# Altium footprint library Loggerhead.PcbLib: 175 footprints (part 11 of 11)
Each footprint in its own frame and in the unit in brackets; x right, y up, seen from the top. Pads: shape width x height; smd on the part's side, far side on the other; paste and mask are expansions set on the pad; w line width, h text height; cw(c..) or ccw(c..) is an arc to the next point about the centre after c.
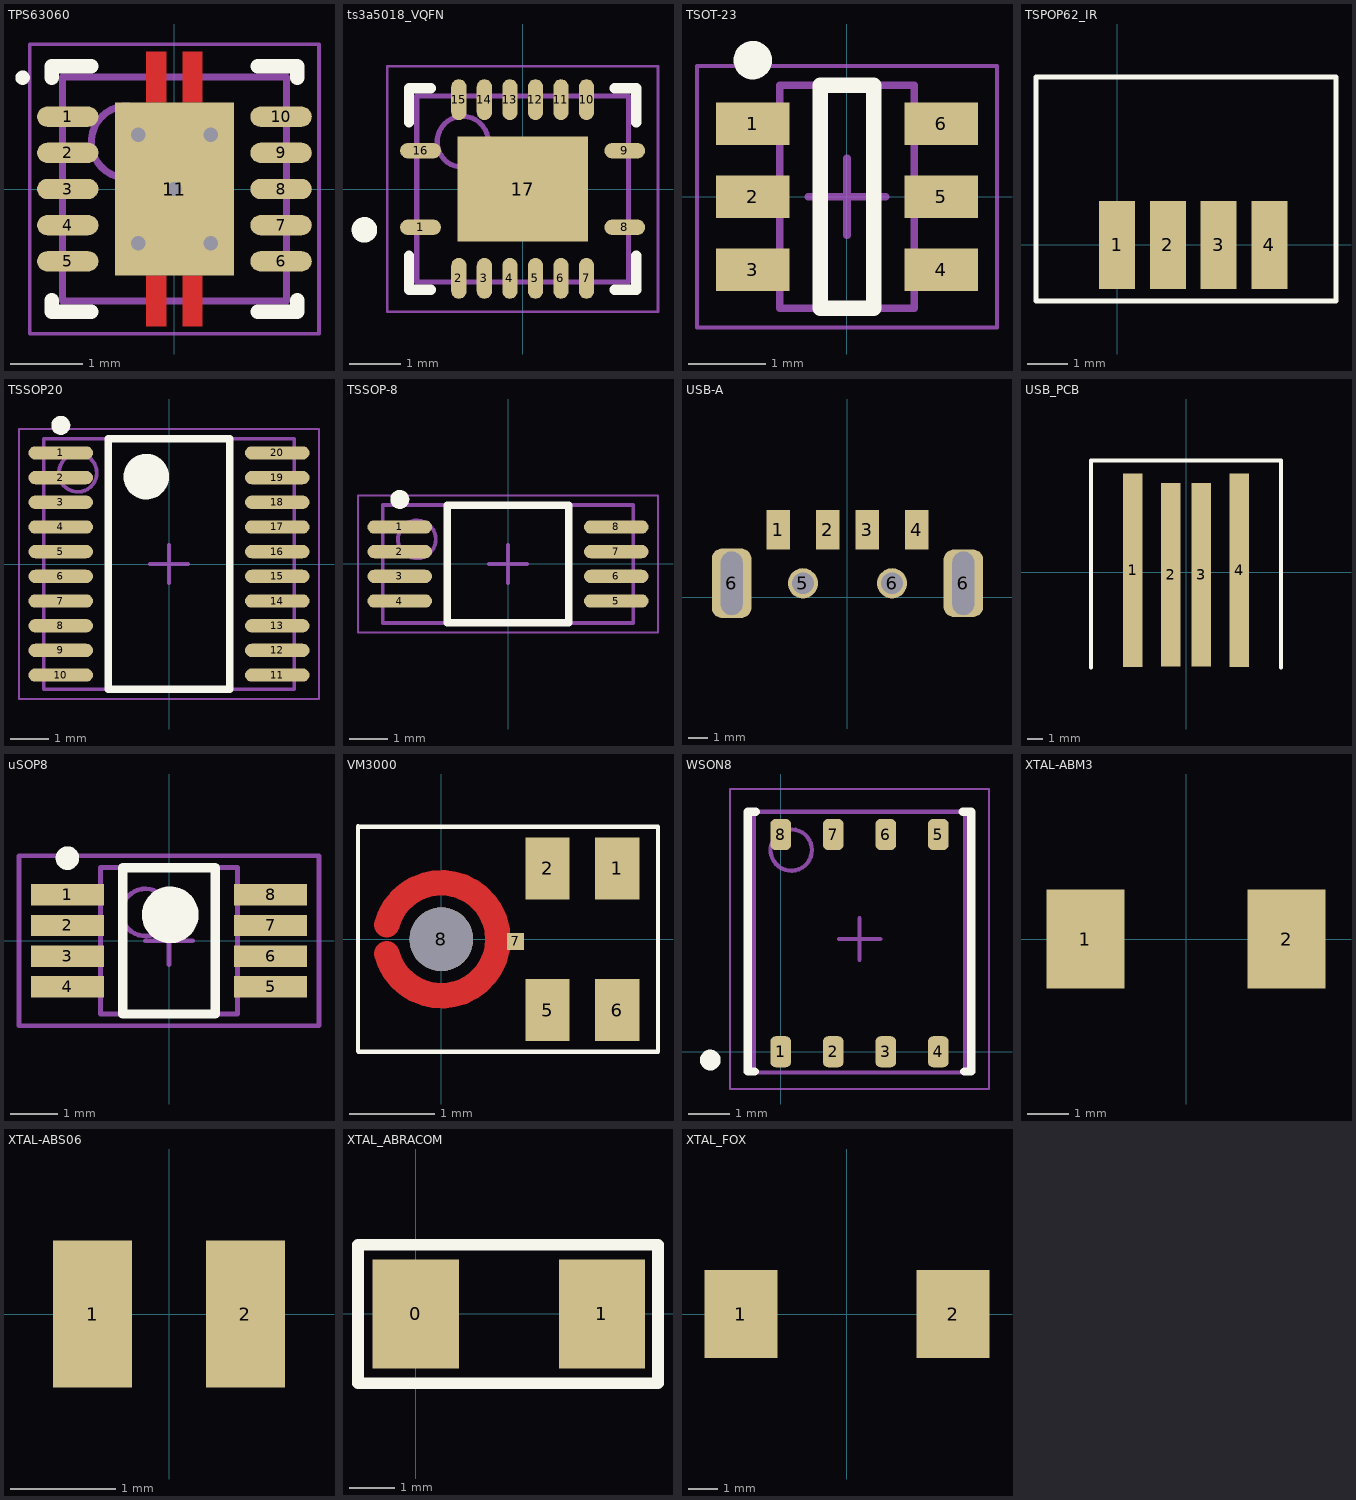
[diagram p10: the footprints below, top view; thin cyan lines are the x and y axes]

## TPS63060 [mm] "buck-boost 2.5-12V input"
pads (11):
  oval 0.85x0.28 smd paste-0.025 mask+0.07: 1(-1.475,1) 2(-1.475,0.5) 3(-1.475,0) 4(-1.475,-0.5) 5(-1.475,-1) 6(1.475,-1) 7(1.475,-0.5) 8(1.475,0) 9(1.475,0.5) 10(1.475,1)
  rect 1.65x2.4 smd paste-0.825 mask+0.07: 11(0,0)
via 0,0 diameter 0.5 hole 0.2
via 0.5,0.75 diameter 0.5 hole 0.2
via -0.5,0.75 diameter 0.5 hole 0.2
via -0.5,-0.75 diameter 0.5 hole 0.2
via 0.5,-0.75 diameter 0.5 hole 0.2
Top Layer:
  rectangle: -0.39,1.2 -0.11,1.9
  region: 0.39,1.9 0.11,1.9 0.11,1.2 0.39,1.2
  region: 0.39,-1.2 0.11,-1.2 0.11,-1.9 0.39,-1.9
  rectangle: -0.39,-1.9 -0.11,-1.2
Top Overlay:
  circle w0.1: c-2.1,1.54 r0.05
  lines w0.2: -1.7,-1.54 -1.7,-1.7 -1.15,-1.7 ; -1.7,1.54 -1.7,1.7 -1.15,1.7 ; 1.15,-1.7 1.7,-1.7 1.7,-1.54 ; 1.15,1.7 1.7,1.7 1.7,1.54
Top Paste:
  rectangle: -0.79,0.11 -0.11,1.16
  rectangle: -0.38,1.38 -0.12,1.88
  region: 0.38,1.88 0.12,1.88 0.12,1.38 0.38,1.38
  region: 0.38,-1.38 0.12,-1.38 0.12,-1.88 0.38,-1.88
  rectangle: -0.38,-1.88 -0.12,-1.38
  region: 0.79,1.16 0.11,1.16 0.11,0.11 0.79,0.11
  region: 0.79,-0.11 0.11,-0.11 0.11,-1.16 0.79,-1.16
  rectangle: -0.79,-1.16 -0.11,-0.11
Mechanical 13:
  circle w0.1: c-0.65,0.65 r0.5
  lines w0.1: -1.55,-1.55 -1.55,1.55 1.55,1.55 1.55,-1.55 -1.55,-1.55
Mechanical 15:
  lines w0.05: -2,-2 -2,2 2,2 2,-2 -2,-2
3D body: height 1, standoff 0, extent -1.55,-1.55 1.55,1.55

## ts3a5018_VQFN [mm] "quad SPDT analog switch"
height 1
pads (17):
  oval 0.8x0.3 smd: 1(-2,-0.75) 8(2,-0.75) 9(2,0.75) 16(-2,0.75)
  oval 0.3x0.8 smd: 2(-1.25,-1.75) 3(-0.75,-1.75) 4(-0.25,-1.75) 5(0.25,-1.75) 6(0.75,-1.75) 7(1.25,-1.75) 10(1.25,1.75) 11(0.75,1.75) 12(0.25,1.75) 13(-0.25,1.75) 14(-0.75,1.75) 15(-1.25,1.75)
  rect 2.55x2.05 smd: 17(0,0)
Top Overlay:
  circle w0.25: c-3.1,-0.8 r0.125
  lines w0.2: -2.225,-1.3 -2.225,-1.975 -1.8,-1.975 ; -2.225,1.3 -2.225,1.975 -1.8,1.975 ; 1.8,-1.975 2.225,-1.975 2.225,-1.3 ; 1.8,1.975 2.225,1.975 2.225,1.3
Mechanical 13:
  circle w0.1: c-1.175,0.925 r0.5
  lines w0.1: -2.075,-1.825 2.075,-1.825 2.075,1.825 -2.075,1.825 -2.075,-1.825
Mechanical 15:
  lines w0.05: -2.65,-2.4 2.65,-2.4 2.65,2.4 -2.65,2.4 -2.65,-2.4
  lines w0.1: -0.5,0 0.5,0 ; 0,-0.5 0,0.5
3D body: height 1, standoff 0.03, extent -2.075,-1.825 2.075,1.825

## TSOT-23 [mm]
height 1
pads (6):
  rect 0.95x0.55 smd: 1(-1.225,0.95) 2(-1.225,0) 3(-1.225,-0.95) 4(1.225,-0.95) 5(1.225,0) 6(1.225,0.95)
Top Overlay:
  circle w0.25: c-1.225,1.775 r0.125
  lines w0.2: -0.35,-1.45 0.35,-1.45 0.35,1.45 -0.35,1.45 -0.35,-1.45
Mechanical 13:
  lines w0.1: -0.875,-1.45 -0.875,1.45 0.875,1.45 0.875,-1.45 -0.875,-1.45
Mechanical 15:
  lines w0.05: -1.95,-1.7 -1.95,1.7 1.95,1.7 1.95,-1.7 -1.95,-1.7
  lines w0.1: -0.5,0 0.5,0 ; 0,-0.5 0,0.5
3D body: height 1, standoff 0.1, extent -0.875,-1.45 0.875,1.45

## TSPOP62_IR [mm]
pads (4):
  rect 0.9x2.2 all layers, no hole: 1(0,0) 2(1.27,0) 3(2.54,0) 4(3.81,0)
Top Overlay:
  lines w0.125: -2.025,-1.4 5.475,-1.4 5.475,4.2 -2.025,4.2 -2.025,-1.4

## TSSOP20 [mm] "TSOP, 20-Leads, Body 6.50x6.40mm, Pitch 0.65mm, IPC Medium Density"
height 1.2
pads (20):
  oval 1.7x0.35 smd: 1(-2.85,2.925) 2(-2.85,2.275) 3(-2.85,1.625) 4(-2.85,0.975) 5(-2.85,0.325) 6(-2.85,-0.325) 7(-2.85,-0.975) 8(-2.85,-1.625) 9(-2.85,-2.275) 10(-2.85,-2.925) 11(2.85,-2.925) 12(2.85,-2.275) 13(2.85,-1.625) 14(2.85,-0.975) 15(2.85,-0.325) 16(2.85,0.325) 17(2.85,0.975) 18(2.85,1.625) 19(2.85,2.275) 20(2.85,2.925)
Top Overlay:
  circle w0.6: c-0.6,2.3 r0.3
  circle w0.25: c-2.85,3.65 r0.125
  lines w0.2: -1.6,-3.3 1.6,-3.3 1.6,3.3 -1.6,3.3 -1.6,-3.3
Mechanical 13:
  circle w0.1: c-2.4,2.4 r0.5
  lines w0.1: -3.3,-3.3 3.3,-3.3 3.3,3.3 -3.3,3.3 -3.3,-3.3
Mechanical 15:
  lines w0.05: -3.95,-3.55 3.95,-3.55 3.95,3.55 -3.95,3.55 -3.95,-3.55
  lines w0.1: -0.5,0 0.5,0 ; 0,-0.5 0,0.5
3D body: height 1.2, standoff 0.05, extent -3.3,-3.3 3.3,3.3

## TSSOP-8 [mm] "SPV1040"
height 1.2
pads (8):
  oval 1.7x0.35 smd: 1(-2.85,0.975) 2(-2.85,0.325) 3(-2.85,-0.325) 4(-2.85,-0.975) 5(2.85,-0.975) 6(2.85,-0.325) 7(2.85,0.325) 8(2.85,0.975)
Top Overlay:
  circle w0.25: c-2.85,1.7 r0.125
  lines w0.2: -1.6,-1.55 1.6,-1.55 1.6,1.55 -1.6,1.55 -1.6,-1.55
Mechanical 13:
  circle w0.1: c-2.4,0.65 r0.5
  lines w0.1: -3.3,-1.55 3.3,-1.55 3.3,1.55 -3.3,1.55 -3.3,-1.55
Mechanical 15:
  lines w0.05: -3.95,-1.8 3.95,-1.8 3.95,1.8 -3.95,1.8 -3.95,-1.8
  lines w0.1: -0.5,0 0.5,0 ; 0,-0.5 0,0.5
3D body: height 1.2, standoff 0.1, extent -3.3,-1.55 3.3,1.55

## USB-A [mm]
height 4.5
pads (8):
  rect 1.2x2 smd: 1(-3.5,3.4) 2(-1,3.4) 3(1,3.4) 4(3.5,3.4)
  round 1.524 hole 1.1: 5(-2.25,0.7) 6(2.25,0.7)
  rrect50% 2x3.5 hole 1.1 slot 3.2 at 90 deg: 6(-5.85,0.7)
  rrect50% 2x3.4 hole 1.1 slot 3.2 at 90 deg: 6(5.85,0.7)
3D body "USB_Molex_480372200.stp": height 2.25, standoff -2.25, extent -6.025,-17.05 6.025,3.9

## USB_PCB [mm] "USB connector using PCB"
pads (4):
  rect 1.27x12.7 smd: 1(-3.5,0.15) 4(3.5,0.15)
  rect 1.27x12.065 smd: 2(-1,-0.16) 3(1,-0.16)
Top Overlay:
  lines w0.254: -6.25,-6.25 -6.25,7.35 6.25,7.35 6.25,-6.25

## uSOP8 [mm]
height 1.1
pads (8):
  rect 1.55x0.45 smd: 1(-2.15,0.975) 2(-2.15,0.325) 3(-2.15,-0.325) 4(-2.15,-0.975) 5(2.15,-0.975) 6(2.15,-0.325) 7(2.15,0.325) 8(2.15,0.975)
Top Overlay:
  circle w0.6: c0.025,0.55 r0.3
  circle w0.25: c-2.15,1.75 r0.125
  lines w0.2: -0.975,-1.55 0.975,-1.55 0.975,1.55 -0.975,1.55 -0.975,-1.55
Mechanical 13:
  circle w0.1: c-0.5,0.6 r0.5
  lines w0.1: -1.45,-1.55 1.45,-1.55 1.45,1.55 -1.45,1.55 -1.45,-1.55
Mechanical 15:
  lines w0.1: -0.5,0 0.5,0 ; 0,-0.5 0,0.5 ; -3.175,-1.8 3.175,-1.8 3.175,1.8 -3.175,1.8 -3.175,-1.8
3D body: height 1.1, standoff 0.05, extent -1.45,-1.55 1.45,1.55

## VM3000 [mm] "Vesper PDM Mic"
pads (6):
  rect 0.52x0.73 smd: 1(2.07,0.835) 2(1.25,0.835) 5(1.25,-0.835) 6(2.07,-0.835)
  rect 0.2x0.2 smd paste-1: 7(0.875,-0.025)
  round 0.75 hole 0.75 unplated mask+0.2: 8(0,0)
Top Layer:
  lines w0.3: -0.643,-0.172 ccw(c0,0) -0.643,0.172
Top Overlay:
  lines w0.05: -0.982,-1.319 -0.982,1.331 ; -0.975,-1.325 2.55,-1.325 2.55,1.325 -0.975,1.325
Top Paste:
  lines w0.2: -0.656,0.177 cw(c0,-0.025) -0.125,0.65 ; -0.625,-0.201 ccw(c0,-0.026) -0.152,-0.657 ; 0.149,0.647 cw(c0,0) 0.646,0.154 ; 0.175,-0.651 ccw(c0.001,-0.025) 0.633,-0.171

## WSON8 [mm] "QFN, 8-Leads, Body 5.00x6.00mm, Pitch 1.27mm, Thermal Pad 4.30x3.40mm, IPC Medium Density"
height 0.75
pads (8):
  rrect50% 0.5x0.75 smd: 1(0,0) 2(1.27,0) 3(2.54,0) 4(3.81,0) 5(3.81,5.25) 6(2.54,5.25) 7(1.27,5.25) 8(0,5.25)
Top Overlay:
  circle w0.25: c-1.7,-0.2 r0.125
  lines w0.2: -0.795,2.715 -0.795,5.8 ; -0.795,2.735 -0.795,-0.475 -0.625,-0.475 ; -0.77,5.8 -0.6,5.8 ; 4.4,5.8 4.6,5.8 4.605,5.8 4.605,2.715 ; 4.435,-0.475 4.605,-0.475 4.605,2.735
Mechanical 13:
  circle w0.1: c0.255,4.875 r0.5
  lines w0.1: -0.645,-0.5 4.455,-0.5 4.455,5.8 -0.645,5.8 -0.645,-0.5
Mechanical 15:
  lines w0.05: -1.22,-0.9 5.03,-0.9 5.03,6.35 -1.22,6.35 -1.22,-0.9
  lines w0.1: 1.405,2.725 2.405,2.725 ; 1.905,2.225 1.905,3.225
3D body: height 0.75, standoff 0.02, extent -0.645,-0.325 4.455,5.775

## XTAL-ABM3 [mm]
pads (2):
  rect 1.9x2.4 smd: 1(-2.45,0) 2(2.45,0)

## XTAL-ABS06 [mm]
pads (2):
  rect 0.75x1.4 smd: 1(-0.725,0) 2(0.725,0)

## XTAL_ABRACOM [mm]
pads (2):
  rect 1.9x2.4 smd: 0(0,0) 1(4.1,0)
Top Overlay:
  lines w0.254: -1.27,-1.524 5.334,-1.524 5.334,1.524 -1.27,1.524 -1.27,-1.524

## XTAL_FOX [mm]
height 1.7
pads (2):
  rect 2.5x3 smd: 1(-3.625,0) 2(3.625,0)